# Altium footprint library drvs-motor.PcbLib: 70 footprints (part 2 of 5)
Each footprint in its own frame and in the unit in brackets; x right, y up, seen from the top. Pads: shape width x height; smd on the part's side, far side on the other; paste and mask are expansions set on the pad; w line width, h text height; cw(c..) or ccw(c..) is an arc to the next point about the centre after c.
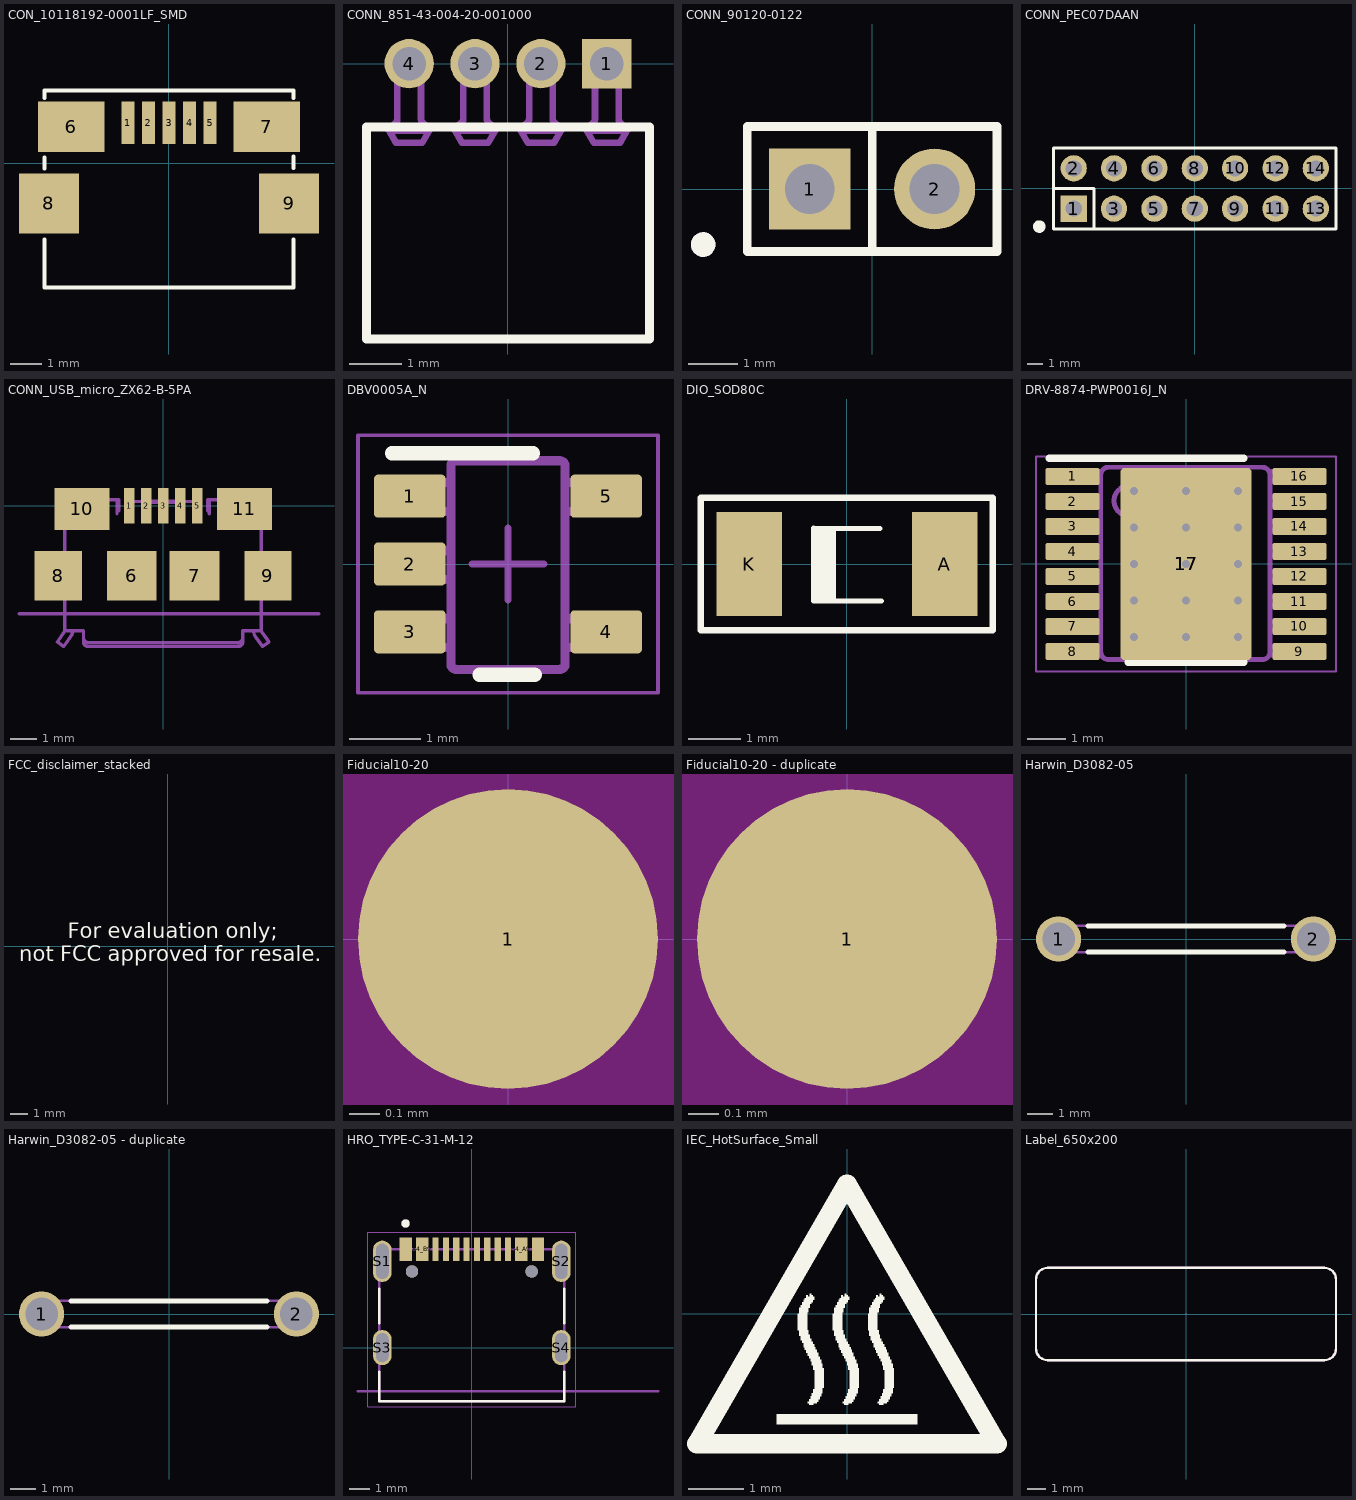
[diagram p1: the footprints below, top view; thin cyan lines are the x and y axes]

## CON_10118192-0001LF_SMD [mm] "USB2.0 MICRO"
height 1.85
pads (9):
  rect 0.4x1.35 smd: 1(-1.3,1.275) 2(-0.65,1.275) 3(0,1.275) 4(0.65,1.275) 5(1.3,1.275)
  rect 2.1x1.6 smd: 6(-3.1,1.15) 7(3.1,1.15)
  rect 1.9x1.9 smd: 8(-3.8,-1.275) 9(3.8,-1.275)
Top Overlay:
  lines w0.127: -3.95,-2.421 -3.95,-3.945 3.95,-3.945 3.95,-2.421 ; -3.95,-0.178 -3.95,0.178 ; -3.95,2.057 -3.95,2.3 3.95,2.3 3.95,2.057 ; 3.95,-0.152 3.95,0.203
3D body "zx62-b-5pa_33_.stp": height 2.81, standoff -0.14, extent -4.037,-3.945 4.037,1.655

## CONN_851-43-004-20-001000 [mm]
pads (4):
  rect 0.95x0.95 hole 0.65: 1(1.905,0)
  round 0.95 hole 0.65: 2(0.635,0) 3(-0.635,0) 4(-1.905,0)
Top Overlay:
  lines w0.178: -2.73,-5.308 -2.73,-1.219 2.731,-1.219 2.731,-5.308 -2.73,-5.308
Mechanical 5:
  lines w0.127: -2.303,-1.273 -2.156,-1.126 ccw(c-2.21,-1.072) -2.133,-1.072 -2.133,-0.355 -2.133,0 cw(c-1.905,0) -1.905,0.229 cw(c-1.905,0) -1.676,0 -1.676,-0.355 -1.676,-1.072 ccw(c-1.6,-1.072) -1.654,-1.126 -1.506,-1.273 ; -2.291,-1.295 -1.905,-1.295 -1.519,-1.295 ; -1.033,-1.273 -0.886,-1.126 ccw(c-0.94,-1.072) -0.863,-1.072 -0.863,-0.355 -0.863,0 cw(c-0.635,0) -0.635,0.229 cw(c-0.635,0) -0.406,0 -0.406,-0.355 -0.406,-1.072 ccw(c-0.33,-1.072) -0.384,-1.126 -0.236,-1.273 ; -1.021,-1.295 -0.635,-1.295 -0.249,-1.295 ; 0.237,-1.273 0.384,-1.126 ccw(c0.33,-1.072) 0.407,-1.072 0.407,-0.355 0.407,0 cw(c0.635,0) 0.635,0.229 cw(c0.635,0) 0.864,0 0.864,-0.355 0.864,-1.072 ccw(c0.94,-1.072) 0.886,-1.126 1.034,-1.273 ; 0.249,-1.295 0.635,-1.295 1.021,-1.295 ; 1.507,-1.273 1.654,-1.126 ccw(c1.6,-1.072) 1.677,-1.072 1.677,-0.355 1.677,0 cw(c1.905,0) 1.905,0.229 cw(c1.905,0) 2.134,0 2.134,-0.355 2.134,-1.072 ccw(c2.21,-1.072) 2.156,-1.126 2.304,-1.273 ; 1.519,-1.295 1.905,-1.295 2.291,-1.295 ; -2.73,-5.308 2.731,-5.308 2.731,-1.219 2.335,-1.219 2.159,-1.524 1.651,-1.524 1.475,-1.219 1.065,-1.219 0.889,-1.524 0.381,-1.524 0.205,-1.219 -0.205,-1.219 -0.381,-1.524 -0.889,-1.524 -1.065,-1.219 -1.475,-1.219 -1.651,-1.524 -2.159,-1.524 -2.335,-1.219 -2.73,-1.219 -2.73,-5.308
  text ".Designator" at -1.27,-2.54 h0.64
3D body "mill-max-P851-43-004-20-001000.stp": height 2.23, standoff -2.79, extent -2.73,-5.308 2.731,0.229

## CONN_90120-0122 [mm]
pads (2):
  rect 1.65x1.65 hole 1.016 mask+0: 1(-1.27,0)
  round 1.65 hole 1.016 mask+0: 2(1.27,0)
Top Overlay:
  circle w0.25: c-3.44,-1.13 r0.125
  lines w0.178: 0,-1.27 0,1.27 ; -2.54,-1.27 2.54,-1.27 2.54,1.27 -2.54,1.27 -2.54,-1.27
Mechanical 5:
  circle w0.25: c-3.44,-1.13 r0.125
  lines w0.127: -2.54,-1.27 -2.54,1.27 2.54,1.27 2.54,-1.27 -2.54,-1.27
  text ".Designator" at -1.524,-0.508 h1.02
3D body "Molex_90120-0122.stp": height 9.29, standoff -3, extent -2.54,-1.27 2.54,1.27

## CONN_PEC07DAAN [mm]
pads (14):
  rect 1.65x1.65 hole 1.016 mask+0: 1(-7.62,-1.27)
  round 1.65 hole 1.016 mask+0: 2(-7.62,1.27) 3(-5.08,-1.27) 4(-5.08,1.27) 5(-2.54,-1.27) 6(-2.54,1.27) 7(0,-1.27) 8(0,1.27) 9(2.54,-1.27) 10(2.54,1.27) 11(5.08,-1.27) 12(5.08,1.27) 13(7.62,-1.27) 14(7.62,1.27)
Top Overlay:
  circle w0.381: c-9.79,-2.4 r0.203
  lines w0.178: -8.89,0 -6.35,0 -6.35,-2.54 ; -8.89,-2.54 8.89,-2.54 8.89,2.54 -8.89,2.54 -8.89,-2.54
Mechanical 5:
  rectangle: -8.128,-1.778 -7.112,-0.762
  lines w0.076: -8.89,-2.54 8.89,-2.54 8.89,2.54 -8.89,2.54 -8.89,-2.54
  lines w0.127: -8.89,-2.54 -8.89,2.54 8.89,2.54 8.89,-2.54 -8.89,-2.54
  text ".Designator" at -1.778,-0.508 h1.02
3D body: height 2.54, standoff 0, extent -8.954,-2.603 8.954,2.603
3D body: height 11.43, standoff -3.05, extent -7.937,-1.587 -7.302,-0.952
3D body: height 11.43, standoff -3.05, extent -7.937,0.953 -7.302,1.588
3D body: height 11.43, standoff -3.05, extent -5.397,0.953 -4.762,1.588
3D body: height 11.43, standoff -3.05, extent -5.397,-1.587 -4.762,-0.952
3D body: height 11.43, standoff -3.05, extent -2.857,-1.587 -2.222,-0.952
3D body: height 11.43, standoff -3.05, extent -2.857,0.953 -2.222,1.588
3D body: height 11.43, standoff -3.05, extent -0.317,-1.587 0.318,-0.952
3D body: height 11.43, standoff -3.05, extent -0.317,0.953 0.318,1.588
3D body: height 11.43, standoff -3.05, extent 2.223,-1.587 2.858,-0.952
3D body: height 11.43, standoff -3.05, extent 7.303,-1.587 7.938,-0.952
3D body: height 11.43, standoff -3.05, extent 7.303,0.953 7.938,1.588
3D body: height 11.43, standoff -3.05, extent 4.763,0.953 5.398,1.588
3D body: height 11.43, standoff -3.05, extent 4.763,-1.587 5.398,-0.952
3D body: height 11.43, standoff -3.05, extent 2.223,0.953 2.858,1.588

## CONN_USB_micro_ZX62-B-5PA [mm]
pads (11):
  rect 0.4x1.35 smd: 1(-1.3,0) 2(-0.65,0) 3(0,0) 4(0.65,0) 5(1.3,0)
  rect 1.9x1.9 smd: 6(-1.2,-2.675) 7(1.2,-2.675)
  rect 1.8x1.9 smd: 8(-4,-2.675) 9(4,-2.675)
  rect 2.1x1.6 smd: 10(-3.1,-0.125) 11(3.1,-0.125)
Mechanical 1:
  lines w0.12: -5.5,-4.125 5.95,-4.125
  text "board edge" at -2.325,-5 h0.5
Mechanical 5:
  drawing of 511 lines, arcs and shapes, not listed
  text ".Designator" at -1.9,-3.025 h1.02
3D body "Hirose_ZX62-B-5P.stp": height 2.55, standoff 0.02, extent -3.75,-5.325 3.75,0.175

## DBV0005A_N [mm]
pads (5):
  rrect17% 1x0.6 smd: 1(-1.375,0.95) 2(-1.375,0) 3(-1.375,-0.95) 4(1.375,-0.95) 5(1.375,0.95)
Top Overlay:
  lines w0.2: -1.625,1.55 0.35,1.55 ; -0.4,-1.55 0.375,-1.55
Mechanical 5:
  lines w0.127: -0.801,1.371 cw(c-0.725,1.37) -0.725,1.446 ; -0.801,1.37 -0.801,-1.399 -0.801,-1.4 ccw(c-0.725,-1.399) -0.725,-1.475 ; -0.801,1.37 -0.801,1.371 ; -0.725,-1.475 -0.725,-1.475 ; -0.725,-1.475 0.723,-1.475 0.724,-1.475 ccw(c0.723,-1.399) 0.799,-1.4 0.799,-1.399 0.799,1.37 ; -0.725,1.446 0.723,1.446 0.724,1.446 cw(c0.723,1.37) 0.799,1.371 ; -0.725,1.446 -0.725,1.446 ; 0.799,1.37 0.799,1.371 ; -1.423,-1.167 -1.199,-1.167 -1.105,-1.167 -1.088,-1.167 -0.835,-1.167 -0.801,-1.167 -0.801,-0.767 -0.835,-0.767 -1.088,-0.767 -1.105,-0.767 -1.199,-0.767 -1.423,-0.767 -1.423,-1.167 ; -1.423,-0.215 -1.199,-0.215 -1.105,-0.215 -1.088,-0.215 -0.835,-0.215 -0.801,-0.215 -0.801,0.186 -0.835,0.186 -1.088,0.186 -1.105,0.186 -1.199,0.186 -1.423,0.186 -1.423,-0.215 ; -1.423,0.738 -1.199,0.738 -1.105,0.738 -1.088,0.738 -0.835,0.738 -0.801,0.738 -0.801,1.138 -0.835,1.138 -1.088,1.138 -1.105,1.138 -1.199,1.138 -1.423,1.138 -1.423,0.738 ; 0.799,-1.167 0.799,-0.767 0.834,-0.767 1.087,-0.767 1.103,-0.767 1.198,-0.767 1.422,-0.767 1.422,-1.167 1.198,-1.167 1.103,-1.167 1.087,-1.167 0.834,-1.167 0.799,-1.167 ; 0.799,0.738 0.799,1.138 0.834,1.138 1.087,1.138 1.103,1.138 1.198,1.138 1.422,1.138 1.422,0.738 1.198,0.738 1.103,0.738 1.087,0.738 0.834,0.738 0.799,0.738
  text ".Designator" at -0.25,0.95 h0.51
Mechanical 15:
  lines w0.05: -2.1,-1.8 2.1,-1.8 2.1,1.8 -2.1,1.8 -2.1,-1.8
  lines w0.1: -0.5,0 0.5,0 ; 0,-0.5 0,0.5
3D body "DBV0005A.stp": height 1.09, standoff 0, extent -1.422,-1.461 1.423,1.46

## DIO_SOD80C [mm] "Voltage regulator diodes"
height 1.6
pads (2):
  rect 1.25x2 smd: A(1.875,0) K(-1.875,0)
Top Overlay:
  rectangle: -0.69,-0.71 -0.208,0.687
  lines w0.1: -0.639,-0.71 0.656,-0.71 ; -0.639,0.687 0.631,0.679
  lines w0.127: -2.8,-1.27 2.794,-1.27 2.794,1.27 -2.8,1.27 -2.8,-1.27
3D body "User Library-SOD80-3.STEP": height 1.5, standoff 0, extent -1.825,-0.775 1.775,0.725

## DRV-8874-PWP0016J_N [mm]
pads (19):
  rrect22% 1.4x0.45 smd: 1(-2.95,2.275) 2(-2.95,1.625) 3(-2.95,0.975) 4(-2.95,0.325) 5(-2.95,-0.325) 6(-2.95,-0.975) 7(-2.95,-1.625) 8(-2.95,-2.275) 9(2.95,-2.275) 10(2.95,-1.625) 11(2.95,-0.975) 12(2.95,-0.325) 13(2.95,0.325) 14(2.95,0.975) 15(2.95,1.625) 16(2.95,2.275)
  rrect6% 3.4x5 smd paste-1.7 mask-1.7: 17(0,0)
  rrect50% 2.46x3.55 on Top Paste: 17(0,0)
  rrect50% 2.46x3.55 on Top Solder: 17(0,0)
via -1.35,0.95 diameter 0.5 hole 0.2
via -1.35,0 diameter 0.5 hole 0.2
via -1.35,-1.9 diameter 0.5 hole 0.2
via -1.35,1.9 diameter 0.5 hole 0.2
via -1.35,-0.95 diameter 0.5 hole 0.2
via 1.35,0 diameter 0.5 hole 0.2
via 1.35,-0.95 diameter 0.5 hole 0.2
via 1.35,0.95 diameter 0.5 hole 0.2
via 1.35,1.9 diameter 0.5 hole 0.2
via 1.35,-1.9 diameter 0.5 hole 0.2
via 0,-1.9 diameter 0.5 hole 0.2
via 0,1.9 diameter 0.5 hole 0.2
via 0,0.95 diameter 0.5 hole 0.2
via 0,-0.95 diameter 0.5 hole 0.2
via 0,0 diameter 0.5 hole 0.2
Top Overlay:
  lines w0.2: -3.55,2.75 1.5,2.75 ; -1.5,-2.55 1.5,-2.55
Mechanical 5:
  drawing of 202 lines, arcs and shapes, not listed
  text ".Designator" at -0.5,1.85 h1.02
Mechanical 15:
  lines w0.05: -3.9,-2.8 -3.9,2.8 3.9,2.8 3.9,-2.8 -3.9,-2.8
  lines w0.1: -0.5,0 0.5,0 ; 0,-0.5 0,0.5
3D body "PWP0016J.stp": height 1.13, standoff 0, extent -3.2,-2.5 3.2,2.5

## FCC_disclaimer_stacked [mm]
Top Overlay:
  text "not FCC approved for resale." at -8.688,-1.178 h1.52
  text "For evaluation only;" at -5.834,0.178 h1.52

## Fiducial10-20 [mm]
pads (1):
  round 1 smd mask+0.5: 1(0,0)
Top Layer keep-out:
  circle w1.178: c0,0 r0.5

## Fiducial10-20 - duplicate [mm]
pads (1):
  round 1 smd mask+0.5: 1(0,0)
Top Layer keep-out:
  circle w1.178: c0,0 r0.5

## Harwin_D3082-05 [mm]
pads (2):
  round 1.8 hole 1.3: 1(-5.08,0) 2(5.08,0)
Top Overlay:
  lines w0.2: -3.9,-0.525 3.9,-0.525 ; -3.9,0.525 3.9,0.525
Mechanical 5:
  lines w0.1: -5.08,-0.525 cw(c-5.08,0) -5.08,0.525 5.08,0.525 cw(c5.08,0) 5.08,-0.525 -5.08,-0.525
  text ".Designator" at -1.125,-0.2 h0.5
3D body: height 6.1, standoff -2.5, extent -5.601,-0.524 -4.555,0.524
3D body: height 6.1, standoff -2.5, extent 4.559,-0.524 5.605,0.524
3D body: height 6.63, standoff 5.58, extent -5.6,-0.523 -4.555,0.523
3D body: height 6.63, standoff 5.58, extent 4.56,-0.523 5.605,0.523
3D body: height 6.63, standoff 5.58, extent -5.08,-0.524 5.08,0.524

## Harwin_D3082-05 - duplicate [mm]
pads (2):
  round 1.8 hole 1.3: 1(-5.08,0) 2(5.08,0)
Top Overlay:
  lines w0.2: -3.9,-0.525 3.9,-0.525 ; -3.9,0.525 3.9,0.525
Mechanical 5:
  lines w0.1: -5.08,-0.525 cw(c-5.08,0) -5.08,0.525 5.08,0.525 cw(c5.08,0) 5.08,-0.525 -5.08,-0.525
  text ".Designator" at -1.125,-0.2 h0.5
3D body: height 6.1, standoff -2.5, extent -5.601,-0.524 -4.555,0.524
3D body: height 6.1, standoff -2.5, extent 4.559,-0.524 5.605,0.524
3D body: height 6.63, standoff 5.58, extent -5.6,-0.523 -4.555,0.523
3D body: height 6.63, standoff 5.58, extent 4.56,-0.523 5.605,0.523
3D body: height 6.63, standoff 5.58, extent -5.08,-0.524 5.08,0.524

## HRO_TYPE-C-31-M-12 [mm]
height 3.26
pads (18):
  rect 0.6x1.14 smd mask+0.05: A1_B12(-3.2,4.75) A4_B9(-2.4,4.75) B1_A12(3.2,4.75) B4_A9(2.4,4.75)
  rect 0.3x1.14 smd mask+0.05: A5(-1.25,4.75) A6(-0.25,4.75) A7(0.25,4.75) A8(1.25,4.75) B5(1.75,4.75) B6(0.75,4.75) B7(-0.75,4.75) B8(-1.75,4.75)
  oval 0.9x2 hole 0.6 slot 1.7 at 90 deg: S1(-4.325,4.17) S2(4.325,4.17)
  oval 0.9x1.7 hole 0.6 slot 1.4 at 90 deg: S3(-4.325,0) S4(4.325,0)
  round 0.6 hole 0.6 unplated: ""(-2.89,3.68) ""(2.89,3.68)
Top Overlay:
  circle w0.2: c-3.2,6 r0.1
  lines w0.127: -4.47,-1.17 -4.47,-2.6 4.47,-2.6 4.47,-1.17 ; -4.47,1.17 -4.47,2.85 ; 4.47,1.17 4.47,2.85
Mechanical 13:
  circle w0.2: c-3.2,6 r0.1
  lines w0.127: -5.5,-2.11 9,-2.11 ; -4.47,-2.6 -4.47,4.75 4.47,4.75 4.47,-2.6 -4.47,-2.6
  text "PCB EDGE" at 5.2,-1.9 h0.61
Mechanical 15:
  lines w0.05: -5.025,-2.85 5.025,-2.85 5.025,5.57 -5.025,5.57 -5.025,-2.85
3D body "step_temp.STEP": height 3.31, standoff -0.99, extent -4.47,-2.6 4.47,5.305

## IEC_HotSurface_Small [mm]
Top Overlay:
  drawing of 10 lines, arcs and shapes, not listed

## Label_650x200 [mil]
pads (1):
  round 1 on Mech13: 0(0,0)
Top Overlay:
  lines w5: -325,-75 ccw(c-300,-75) -300,-100 300,-100 ccw(c300,-75) 325,-75 325,75 ccw(c300,75) 300,100 -300,100 ccw(c-300,75) -325,75 -325,-75
Mechanical 5:
  lines w5: -325,-75 ccw(c-300,-75) -300,-100 300,-100 ccw(c300,-75) 325,-75 325,75 ccw(c300,75) 300,100 -300,100 ccw(c-300,75) -325,75 -325,-75
  text ".Designator" at -60,-20 h40
3D body: height 1, standoff 0, extent -325.02,-100.02 325.02,100.02